# Altium integrated library NSC Interface.IntLib: 1288 symbols (part 40 of 45)
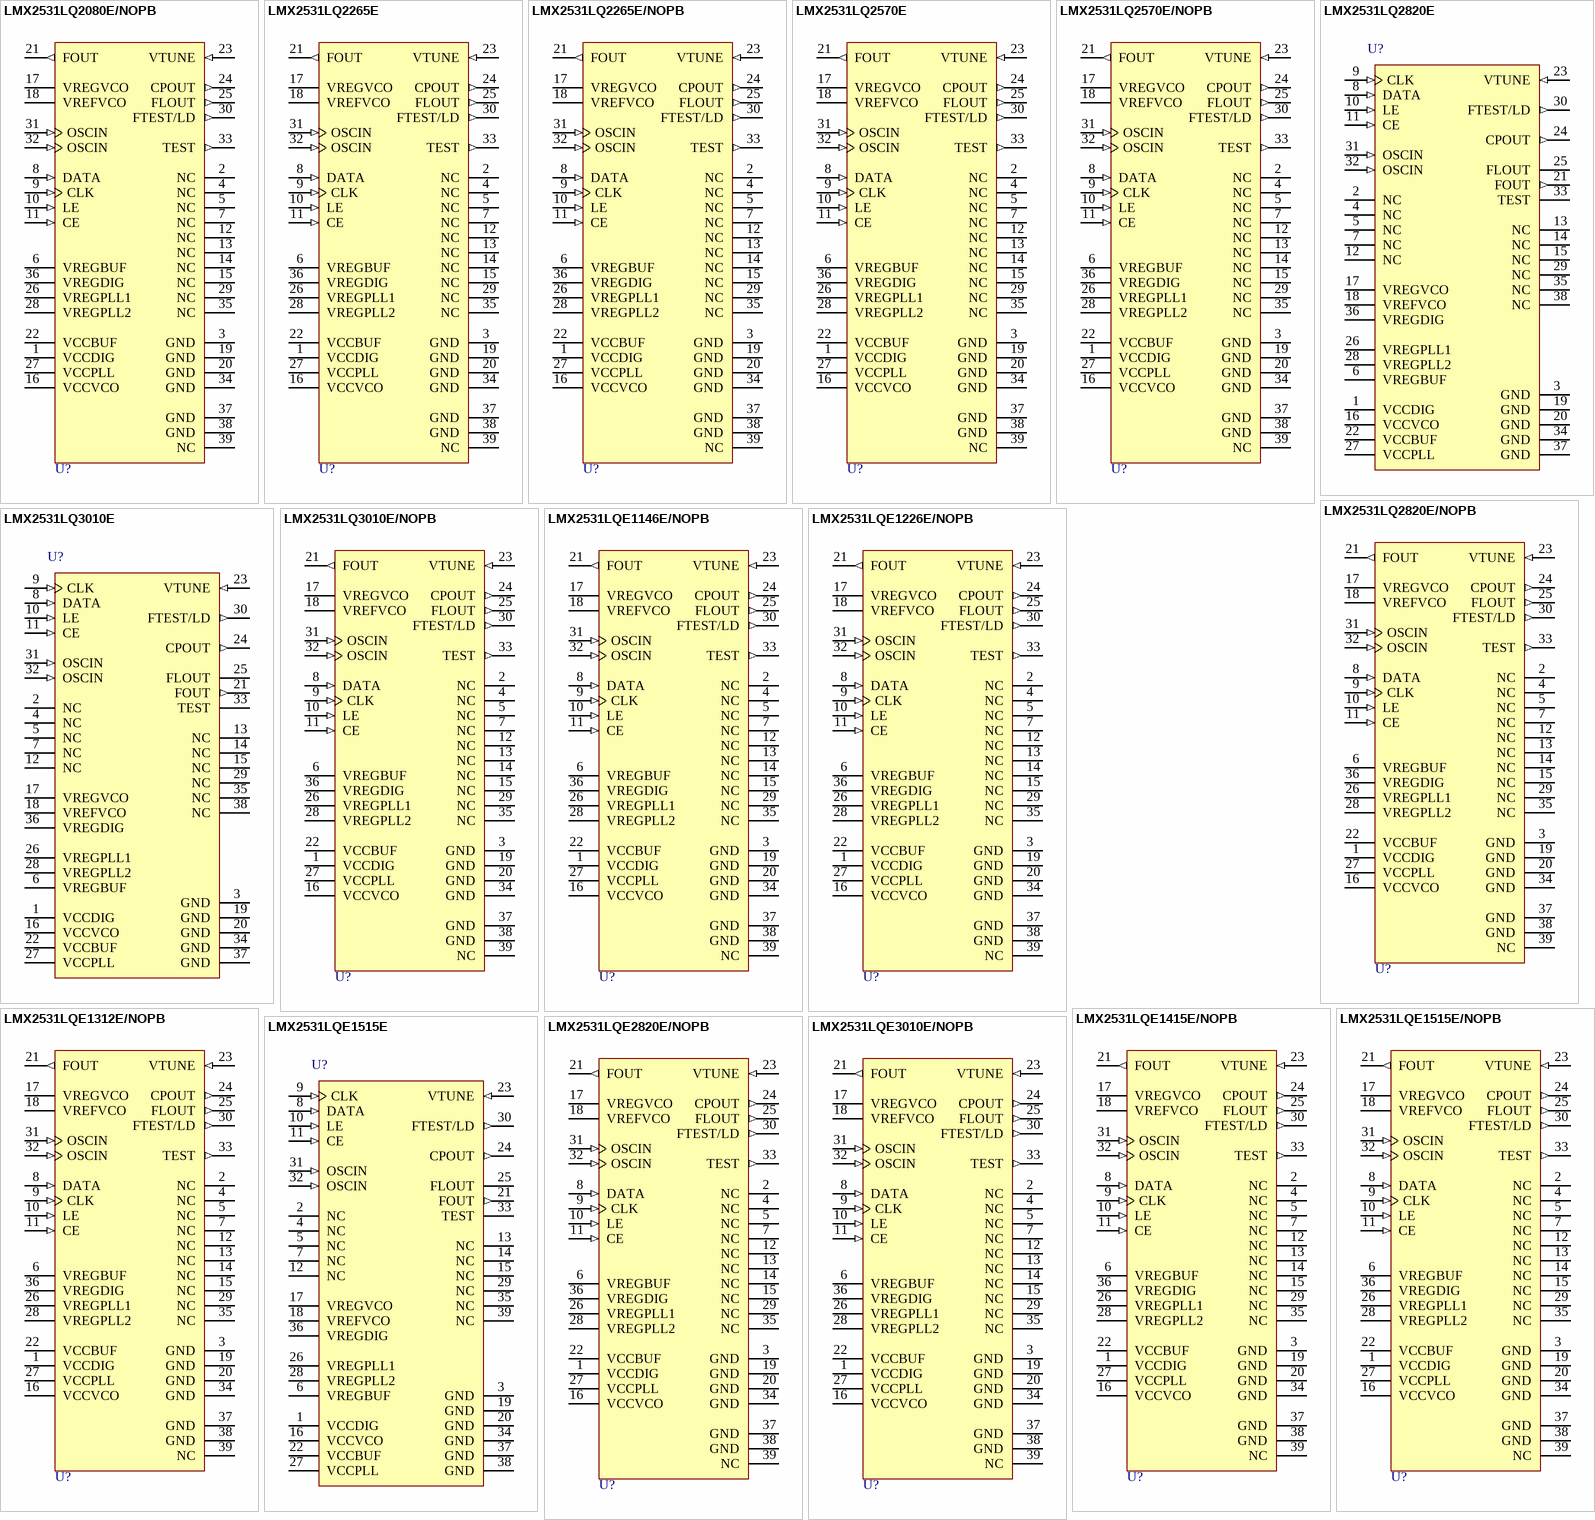
[diagram p151: symbols LMX2531LQ2080E/NOPB to LMX2531LQE3010E/NOPB]

## LMX2531LQ3010E
designator U?
High Performance Frequency Synthesizer System with Integrated VCO, 36-pin LLP; PartNumber: LMX2531LQ3010E; Manufacturer: National Semiconductor; PackageTopMarking: NS*UZXYTT*313010E; PowerWise: Y; CompType: Interface IC; Published: 9-Oct-2009; LatestRevisionDate: 1-Mar-2010; LatestRevisionNote: Updated datasheet to revision Dec-2009; DatasheetVersion: Dec-2009; PackageVersion: revB, Feb-2008; PackageReference: LQA36D; Publisher: Altium Limited; PackageDescription: LLP, Plastic, Quad, 6 x 6 x 0.8mm Body, 36 Lead, 0.5mm Pitch, Custom; RoHS: Y; PinCount: 36; ComponentLink1Description: LMX2531LQ3010E Datasheet; ComponentLink1URL: http://www.national.com/ds/LM/LMX2531.pdf; ComponentLink2Description: LMX2531LQ3010E Web Page; ComponentLink2URL: http://www.national.com/pf/LM/LMX2531LQ3010E.html; ComponentLink3Description: LQA36A Package Page; ComponentLink3URL: http://www.national.com/packaging/folders/lqa36a.html
footprint LQA36D (PQFN, 36-Leads, Body 6x6mm, Pitch 0.5mm, NSC Recommended)
pins: 1 VCCDIG (power), 2 NC, 3 GND (power), 4 NC, 5 NC, 6 VREGBUF (power), 7 NC, 8 DATA (in), 9 CLK (in), 10 LE (in), 11 CE (in), 12 NC, 13 NC, 14 NC, 15 NC, 16 VCCVCO (power), 17 VREGVCO (power), 18 VREFVCO (power), 19 GND (power), 20 GND (power), 21 FOUT (out), 22 VCCBUF (power), 23 VTUNE (in), 24 CPOUT (out), 25 FLOUT (oc), 26 VREGPLL1 (power), 27 VCCPLL (power), 28 VREGPLL2 (power), 29 NC, 30 FTEST/LD (out), 31 OSCIN (in), 32 OSCIN (in), 33 TEST, 34 GND (power), 35 NC, 36 VREGDIG (power), 37 GND, 38 NC

## LMX2531LQ3010E/NOPB
designator U?
High Performance Frequency Synthesizer System with Integrated VCO, 36-pin LLP, Pb-Free; PartNumber: LMX2531LQ3010E/NOPB; Manufacturer: National Semiconductor; PackageTopMarking: NS*UZXYTTE#*313010E; PowerWise: Y; CompType: Interface IC; Published: 1-Mar-2010; DatasheetVersion: Dec-2009; PackageVersion: revC, Oct-2003; PackageReference: LQA36A; Publisher: Altium Limited; PackageDescription: LLP, Plastic, Quad, 6 x 6 x 0.8mm Body, 36 Lead, 0.5mm Pitch, Custom; Supplier 1: Digi-Key; Supplier Part Number 1: LMX2531LQ3010E/NOPBTR-ND; Supplier 2: Digi-Key; Supplier Part Number 2: LMX2531LQ3010E/NOPBCT-ND; Supplier 3: Digi-Key; Supplier Part Number 3: LMX2531LQ3010E/NOPBDKR-ND; RoHS: Y; PinCount: 36; ComponentLink1Description: LMX2531 Datasheet; ComponentLink1URL: http://www.national.com/ds/LM/LMX2531.pdf; ComponentLink2Description: LMX2531 Web Page; ComponentLink2URL: http://www.national.com/pf/LM/LMX2531.html; ComponentLink3Description: LQA36A Package Page; ComponentLink3URL: http://www.national.com/packaging/folders/lqa36a.html
footprint LQA36A (PQFN, 36-Leads, Body 6x6mm, Pitch 0.5mm, NSC Recommended)
pins: 1 VCCDIG (power), 2 NC, 3 GND (power), 4 NC, 5 NC, 6 VREGBUF (power), 7 NC, 8 DATA (in), 9 CLK (in), 10 LE (in), 11 CE (in), 12 NC, 13 NC, 14 NC, 15 NC, 16 VCCVCO (power), 17 VREGVCO (power), 18 VREFVCO (power), 19 GND (power), 20 GND (power), 21 FOUT (out), 22 VCCBUF (power), 23 VTUNE (in), 24 CPOUT (out), 25 FLOUT (out), 26 VREGPLL1 (power), 27 VCCPLL (power), 28 VREGPLL2 (power), 29 NC, 30 FTEST/LD (out), 31 OSCIN (in), 32 OSCIN (in), 33 TEST (out), 34 GND (power), 35 NC, 36 VREGDIG (power), 37 GND (power), 38 GND (power), 39 NC

## LMX2531LQE1146E/NOPB
designator U?
High Performance Frequency Synthesizer System with Integrated VCO, 36-pin LLP, Pb-Free; PartNumber: LMX2531LQE1146E/NOPB; Manufacturer: National Semiconductor; PackageTopMarking: NS*UZXYTTE#*311146E; PowerWise: Y; CompType: Interface IC; Published: 1-Mar-2010; DatasheetVersion: Dec-2009; PackageVersion: revC, Oct-2003; PackageReference: LQA36A; Publisher: Altium Limited; PackageDescription: LLP, Plastic, Quad, 6 x 6 x 0.8mm Body, 36 Lead, 0.5mm Pitch, Custom; Supplier 1: Digi-Key; Supplier Part Number 1: LMX2531LQE1146ETR-ND; Supplier 2: Digi-Key; Supplier Part Number 2: LMX2531LQE1146ECT-ND; Supplier 3: Digi-Key; Supplier Part Number 3: LMX2531LQE1146EDKR-ND; RoHS: Y; PinCount: 36; ComponentLink1Description: LMX2531 Datasheet; ComponentLink1URL: http://www.national.com/ds/LM/LMX2531.pdf; ComponentLink2Description: LMX2531 Web Page; ComponentLink2URL: http://www.national.com/pf/LM/LMX2531.html; ComponentLink3Description: LQA36A Package Page; ComponentLink3URL: http://www.national.com/packaging/folders/lqa36a.html
footprint LQA36A (PQFN, 36-Leads, Body 6x6mm, Pitch 0.5mm, NSC Recommended)
pins: 1 VCCDIG (power), 2 NC, 3 GND (power), 4 NC, 5 NC, 6 VREGBUF (power), 7 NC, 8 DATA (in), 9 CLK (in), 10 LE (in), 11 CE (in), 12 NC, 13 NC, 14 NC, 15 NC, 16 VCCVCO (power), 17 VREGVCO (power), 18 VREFVCO (power), 19 GND (power), 20 GND (power), 21 FOUT (out), 22 VCCBUF (power), 23 VTUNE (in), 24 CPOUT (out), 25 FLOUT (out), 26 VREGPLL1 (power), 27 VCCPLL (power), 28 VREGPLL2 (power), 29 NC, 30 FTEST/LD (out), 31 OSCIN (in), 32 OSCIN (in), 33 TEST (out), 34 GND (power), 35 NC, 36 VREGDIG (power), 37 GND (power), 38 GND (power), 39 NC

## LMX2531LQE1226E/NOPB
designator U?
High Performance Frequency Synthesizer System with Integrated VCO, 36-pin LLP, Pb-Free; PartNumber: LMX2531LQE1226E/NOPB; Manufacturer: National Semiconductor; PackageTopMarking: NS*UZXYTTE#*311226E; PowerWise: Y; CompType: Interface IC; Published: 1-Mar-2010; DatasheetVersion: Dec-2009; PackageVersion: revC, Oct-2003; PackageReference: LQA36A; Publisher: Altium Limited; PackageDescription: LLP, Plastic, Quad, 6 x 6 x 0.8mm Body, 36 Lead, 0.5mm Pitch, Custom; Supplier 1: Digi-Key; Supplier Part Number 1: LMX2531LQE1226ETR-ND; Supplier 2: Digi-Key; Supplier Part Number 2: LMX2531LQE1226ECT-ND; Supplier 3: Digi-Key; Supplier Part Number 3: LMX2531LQE1226EDKR-ND; RoHS: Y; PinCount: 36; ComponentLink1Description: LMX2531 Datasheet; ComponentLink1URL: http://www.national.com/ds/LM/LMX2531.pdf; ComponentLink2Description: LMX2531 Web Page; ComponentLink2URL: http://www.national.com/pf/LM/LMX2531.html; ComponentLink3Description: LQA36A Package Page; ComponentLink3URL: http://www.national.com/packaging/folders/lqa36a.html
footprint LQA36A (PQFN, 36-Leads, Body 6x6mm, Pitch 0.5mm, NSC Recommended)
pins: 1 VCCDIG (power), 2 NC, 3 GND (power), 4 NC, 5 NC, 6 VREGBUF (power), 7 NC, 8 DATA (in), 9 CLK (in), 10 LE (in), 11 CE (in), 12 NC, 13 NC, 14 NC, 15 NC, 16 VCCVCO (power), 17 VREGVCO (power), 18 VREFVCO (power), 19 GND (power), 20 GND (power), 21 FOUT (out), 22 VCCBUF (power), 23 VTUNE (in), 24 CPOUT (out), 25 FLOUT (out), 26 VREGPLL1 (power), 27 VCCPLL (power), 28 VREGPLL2 (power), 29 NC, 30 FTEST/LD (out), 31 OSCIN (in), 32 OSCIN (in), 33 TEST (out), 34 GND (power), 35 NC, 36 VREGDIG (power), 37 GND (power), 38 GND (power), 39 NC

## LMX2531LQE1312E/NOPB
designator U?
High Performance Frequency Synthesizer System with Integrated VCO, 36-pin LLP, Pb-Free; PartNumber: LMX2531LQE1312E/NOPB; Manufacturer: National Semiconductor; PackageTopMarking: NS*UZXYTTE#*311312E; PowerWise: Y; CompType: Interface IC; Published: 1-Mar-2010; DatasheetVersion: Dec-2009; PackageVersion: revC, Oct-2003; PackageReference: LQA36A; Publisher: Altium Limited; PackageDescription: LLP, Plastic, Quad, 6 x 6 x 0.8mm Body, 36 Lead, 0.5mm Pitch, Custom; Supplier 1: Digi-Key; Supplier Part Number 1: LMX2531LQE1312ETR-ND; Supplier 2: Digi-Key; Supplier Part Number 2: LMX2531LQE1312ECT-ND; Supplier 3: Digi-Key; Supplier Part Number 3: LMX2531LQE1312EDKR-ND; RoHS: Y; PinCount: 36; ComponentLink1Description: LMX2531 Datasheet; ComponentLink1URL: http://www.national.com/ds/LM/LMX2531.pdf; ComponentLink2Description: LMX2531 Web Page; ComponentLink2URL: http://www.national.com/pf/LM/LMX2531.html; ComponentLink3Description: LQA36A Package Page; ComponentLink3URL: http://www.national.com/packaging/folders/lqa36a.html
footprint LQA36A (PQFN, 36-Leads, Body 6x6mm, Pitch 0.5mm, NSC Recommended)
pins: 1 VCCDIG (power), 2 NC, 3 GND (power), 4 NC, 5 NC, 6 VREGBUF (power), 7 NC, 8 DATA (in), 9 CLK (in), 10 LE (in), 11 CE (in), 12 NC, 13 NC, 14 NC, 15 NC, 16 VCCVCO (power), 17 VREGVCO (power), 18 VREFVCO (power), 19 GND (power), 20 GND (power), 21 FOUT (out), 22 VCCBUF (power), 23 VTUNE (in), 24 CPOUT (out), 25 FLOUT (out), 26 VREGPLL1 (power), 27 VCCPLL (power), 28 VREGPLL2 (power), 29 NC, 30 FTEST/LD (out), 31 OSCIN (in), 32 OSCIN (in), 33 TEST (out), 34 GND (power), 35 NC, 36 VREGDIG (power), 37 GND (power), 38 GND (power), 39 NC

## LMX2531LQE1415E/NOPB
designator U?
High Performance Frequency Synthesizer System with Integrated VCO, 36-pin LLP, Pb-Free; PartNumber: LMX2531LQE1415E/NOPB; Manufacturer: National Semiconductor; PackageTopMarking: NS*UZXYTTE#*311415E; PowerWise: Y; CompType: Interface IC; Published: 1-Mar-2010; DatasheetVersion: Dec-2009; PackageVersion: revC, Oct-2003; PackageReference: LQA36A; Publisher: Altium Limited; PackageDescription: LLP, Plastic, Quad, 6 x 6 x 0.8mm Body, 36 Lead, 0.5mm Pitch, Custom; Supplier 1: Digi-Key; Supplier Part Number 1: LMX2531LQE1415ETR-ND; Supplier 2: Digi-Key; Supplier Part Number 2: LMX2531LQE1415ECT-ND; Supplier 3: Digi-Key; Supplier Part Number 3: LMX2531LQE1415EDKR-ND; RoHS: Y; PinCount: 36; ComponentLink1Description: LMX2531 Datasheet; ComponentLink1URL: http://www.national.com/ds/LM/LMX2531.pdf; ComponentLink2Description: LMX2531 Web Page; ComponentLink2URL: http://www.national.com/pf/LM/LMX2531.html; ComponentLink3Description: LQA36A Package Page; ComponentLink3URL: http://www.national.com/packaging/folders/lqa36a.html
footprint LQA36A (PQFN, 36-Leads, Body 6x6mm, Pitch 0.5mm, NSC Recommended)
pins: 1 VCCDIG (power), 2 NC, 3 GND (power), 4 NC, 5 NC, 6 VREGBUF (power), 7 NC, 8 DATA (in), 9 CLK (in), 10 LE (in), 11 CE (in), 12 NC, 13 NC, 14 NC, 15 NC, 16 VCCVCO (power), 17 VREGVCO (power), 18 VREFVCO (power), 19 GND (power), 20 GND (power), 21 FOUT (out), 22 VCCBUF (power), 23 VTUNE (in), 24 CPOUT (out), 25 FLOUT (out), 26 VREGPLL1 (power), 27 VCCPLL (power), 28 VREGPLL2 (power), 29 NC, 30 FTEST/LD (out), 31 OSCIN (in), 32 OSCIN (in), 33 TEST (out), 34 GND (power), 35 NC, 36 VREGDIG (power), 37 GND (power), 38 GND (power), 39 NC

## LMX2531LQE1515E
designator U?
High Performance Frequency Synthesizer System with Integrated VCO, 38-pin LLP; PartNumber: LMX2531LQE1515E; Manufacturer: National Semiconductor; PackageTopMarking: NS*UZXYTT* 311515E; PowerWise: Y; CompType: Interface IC; Published: 4-Dec-2008; LatestRevisionDate: 1-Mar-2010; LatestRevisionNote: Updated datasheet to revision Dec-2009; DatasheetVersion: Dec-2009; PackageVersion: revC, Oct-2003; PackageReference: LQA36A; Publisher: Altium Limited; PackageDescription: LLP, Plastic, Quad, 6 x 6 x 0.8mm Body, 36 Lead, 0.5mm Pitch, Custom; RoHS: Y; PinCount: 36; ComponentLink1Description: LMX2531LQ1515E Datasheet; ComponentLink1URL: http://www.national.com/ds/LM/LMX2531.pdf; ComponentLink2Description: LMX2531LQ1515E Web Page; ComponentLink2URL: http://www.national.com/pf/LM/LMX2531LQ1515E.html; ComponentLink3Description: LQA36A Package Page; ComponentLink3URL: http://www.national.com/packaging/folders/lqa36a.html
footprint LQA36A (PQFN, 36-Leads, Body 6x6mm, Pitch 0.5mm, NSC Recommended)
pins: 1 VCCDIG (power), 2 NC, 3 GND (power), 4 NC, 5 NC, 6 VREGBUF (power), 7 NC, 8 DATA (in), 9 CLK (in), 10 LE (in), 11 CE (in), 12 NC, 13 NC, 14 NC, 15 NC, 16 VCCVCO (power), 17 VREGVCO (power), 18 VREFVCO (power), 19 GND (power), 20 GND (power), 21 FOUT (out), 22 VCCBUF (power), 23 VTUNE (in), 24 CPOUT (out), 25 FLOUT (oc), 26 VREGPLL1 (power), 27 VCCPLL (power), 28 VREGPLL2 (power), 29 NC, 30 FTEST/LD (out), 31 OSCIN (in), 32 OSCIN (in), 33 TEST, 34 GND (power), 35 NC, 36 VREGDIG (power), 37 GND, 38 GND, 39 NC

## LMX2531LQE1515E/NOPB
designator U?
High Performance Frequency Synthesizer System with Integrated VCO, 36-pin LLP, Pb-Free; PartNumber: LMX2531LQE1515E/NOPB; Manufacturer: National Semiconductor; PackageTopMarking: NS*UZXYTTE#*311515E; PowerWise: Y; CompType: Interface IC; Published: 1-Mar-2010; DatasheetVersion: Dec-2009; PackageVersion: revC, Oct-2003; PackageReference: LQA36A; Publisher: Altium Limited; PackageDescription: LLP, Plastic, Quad, 6 x 6 x 0.8mm Body, 36 Lead, 0.5mm Pitch, Custom; Supplier 1: Digi-Key; Supplier Part Number 1: LMX2531LQE1515ETR-ND; Supplier 2: Digi-Key; Supplier Part Number 2: LMX2531LQE1515ECT-ND; Supplier 3: Digi-Key; Supplier Part Number 3: LMX2531LQE1515EDKR-ND; RoHS: Y; PinCount: 36; ComponentLink1Description: LMX2531 Datasheet; ComponentLink1URL: http://www.national.com/ds/LM/LMX2531.pdf; ComponentLink2Description: LMX2531 Web Page; ComponentLink2URL: http://www.national.com/pf/LM/LMX2531.html; ComponentLink3Description: LQA36A Package Page; ComponentLink3URL: http://www.national.com/packaging/folders/lqa36a.html
footprint LQA36A (PQFN, 36-Leads, Body 6x6mm, Pitch 0.5mm, NSC Recommended)
pins: 1 VCCDIG (power), 2 NC, 3 GND (power), 4 NC, 5 NC, 6 VREGBUF (power), 7 NC, 8 DATA (in), 9 CLK (in), 10 LE (in), 11 CE (in), 12 NC, 13 NC, 14 NC, 15 NC, 16 VCCVCO (power), 17 VREGVCO (power), 18 VREFVCO (power), 19 GND (power), 20 GND (power), 21 FOUT (out), 22 VCCBUF (power), 23 VTUNE (in), 24 CPOUT (out), 25 FLOUT (out), 26 VREGPLL1 (power), 27 VCCPLL (power), 28 VREGPLL2 (power), 29 NC, 30 FTEST/LD (out), 31 OSCIN (in), 32 OSCIN (in), 33 TEST (out), 34 GND (power), 35 NC, 36 VREGDIG (power), 37 GND (power), 38 GND (power), 39 NC

## LMX2531LQE2820E/NOPB
designator U?
High Performance Frequency Synthesizer System with Integrated VCO, 36-pin LLP, Pb-Free; PartNumber: LMX2531LQE2820E/NOPB; Manufacturer: National Semiconductor; PackageTopMarking: NS*UZXYTTE#*312820E; PowerWise: Y; CompType: Interface IC; Published: 1-Mar-2010; DatasheetVersion: Dec-2009; PackageVersion: revC, Oct-2003; PackageReference: LQA36A; Publisher: Altium Limited; PackageDescription: LLP, Plastic, Quad, 6 x 6 x 0.8mm Body, 36 Lead, 0.5mm Pitch, Custom; Supplier 1: Digi-Key; Supplier Part Number 1: LMX2531LQE2820ETR-ND; Supplier 2: Digi-Key; Supplier Part Number 2: LMX2531LQE2820ECT-ND; Supplier 3: Digi-Key; Supplier Part Number 3: LMX2531LQE2820EDKR-ND; RoHS: Y; PinCount: 36; ComponentLink1Description: LMX2531 Datasheet; ComponentLink1URL: http://www.national.com/ds/LM/LMX2531.pdf; ComponentLink2Description: LMX2531 Web Page; ComponentLink2URL: http://www.national.com/pf/LM/LMX2531.html; ComponentLink3Description: LQA36A Package Page; ComponentLink3URL: http://www.national.com/packaging/folders/lqa36a.html
footprint LQA36A (PQFN, 36-Leads, Body 6x6mm, Pitch 0.5mm, NSC Recommended)
pins: 1 VCCDIG (power), 2 NC, 3 GND (power), 4 NC, 5 NC, 6 VREGBUF (power), 7 NC, 8 DATA (in), 9 CLK (in), 10 LE (in), 11 CE (in), 12 NC, 13 NC, 14 NC, 15 NC, 16 VCCVCO (power), 17 VREGVCO (power), 18 VREFVCO (power), 19 GND (power), 20 GND (power), 21 FOUT (out), 22 VCCBUF (power), 23 VTUNE (in), 24 CPOUT (out), 25 FLOUT (out), 26 VREGPLL1 (power), 27 VCCPLL (power), 28 VREGPLL2 (power), 29 NC, 30 FTEST/LD (out), 31 OSCIN (in), 32 OSCIN (in), 33 TEST (out), 34 GND (power), 35 NC, 36 VREGDIG (power), 37 GND (power), 38 GND (power), 39 NC

## LMX2531LQE3010E/NOPB
designator U?
High Performance Frequency Synthesizer System with Integrated VCO, 36-pin LLP, Pb-Free; PartNumber: LMX2531LQE3010E/NOPB; Manufacturer: National Semiconductor; PackageTopMarking: NS*UZXYTTE#*313010E; PowerWise: Y; CompType: Interface IC; Published: 1-Mar-2010; DatasheetVersion: Dec-2009; PackageVersion: revC, Oct-2003; PackageReference: LQA36A; Publisher: Altium Limited; PackageDescription: LLP, Plastic, Quad, 6 x 6 x 0.8mm Body, 36 Lead, 0.5mm Pitch, Custom; Supplier 1: Digi-Key; Supplier Part Number 1: LMX2531LQE3010ETR-ND; Supplier 2: Digi-Key; Supplier Part Number 2: LMX2531LQE3010ECT-ND; Supplier 3: Digi-Key; Supplier Part Number 3: LMX2531LQE3010EDKR-ND; RoHS: Y; PinCount: 36; ComponentLink1Description: LMX2531 Datasheet; ComponentLink1URL: http://www.national.com/ds/LM/LMX2531.pdf; ComponentLink2Description: LMX2531 Web Page; ComponentLink2URL: http://www.national.com/pf/LM/LMX2531.html; ComponentLink3Description: LQA36A Package Page; ComponentLink3URL: http://www.national.com/packaging/folders/lqa36a.html
footprint LQA36A (PQFN, 36-Leads, Body 6x6mm, Pitch 0.5mm, NSC Recommended)
pins: 1 VCCDIG (power), 2 NC, 3 GND (power), 4 NC, 5 NC, 6 VREGBUF (power), 7 NC, 8 DATA (in), 9 CLK (in), 10 LE (in), 11 CE (in), 12 NC, 13 NC, 14 NC, 15 NC, 16 VCCVCO (power), 17 VREGVCO (power), 18 VREFVCO (power), 19 GND (power), 20 GND (power), 21 FOUT (out), 22 VCCBUF (power), 23 VTUNE (in), 24 CPOUT (out), 25 FLOUT (out), 26 VREGPLL1 (power), 27 VCCPLL (power), 28 VREGPLL2 (power), 29 NC, 30 FTEST/LD (out), 31 OSCIN (in), 32 OSCIN (in), 33 TEST (out), 34 GND (power), 35 NC, 36 VREGDIG (power), 37 GND (power), 38 GND (power), 39 NC

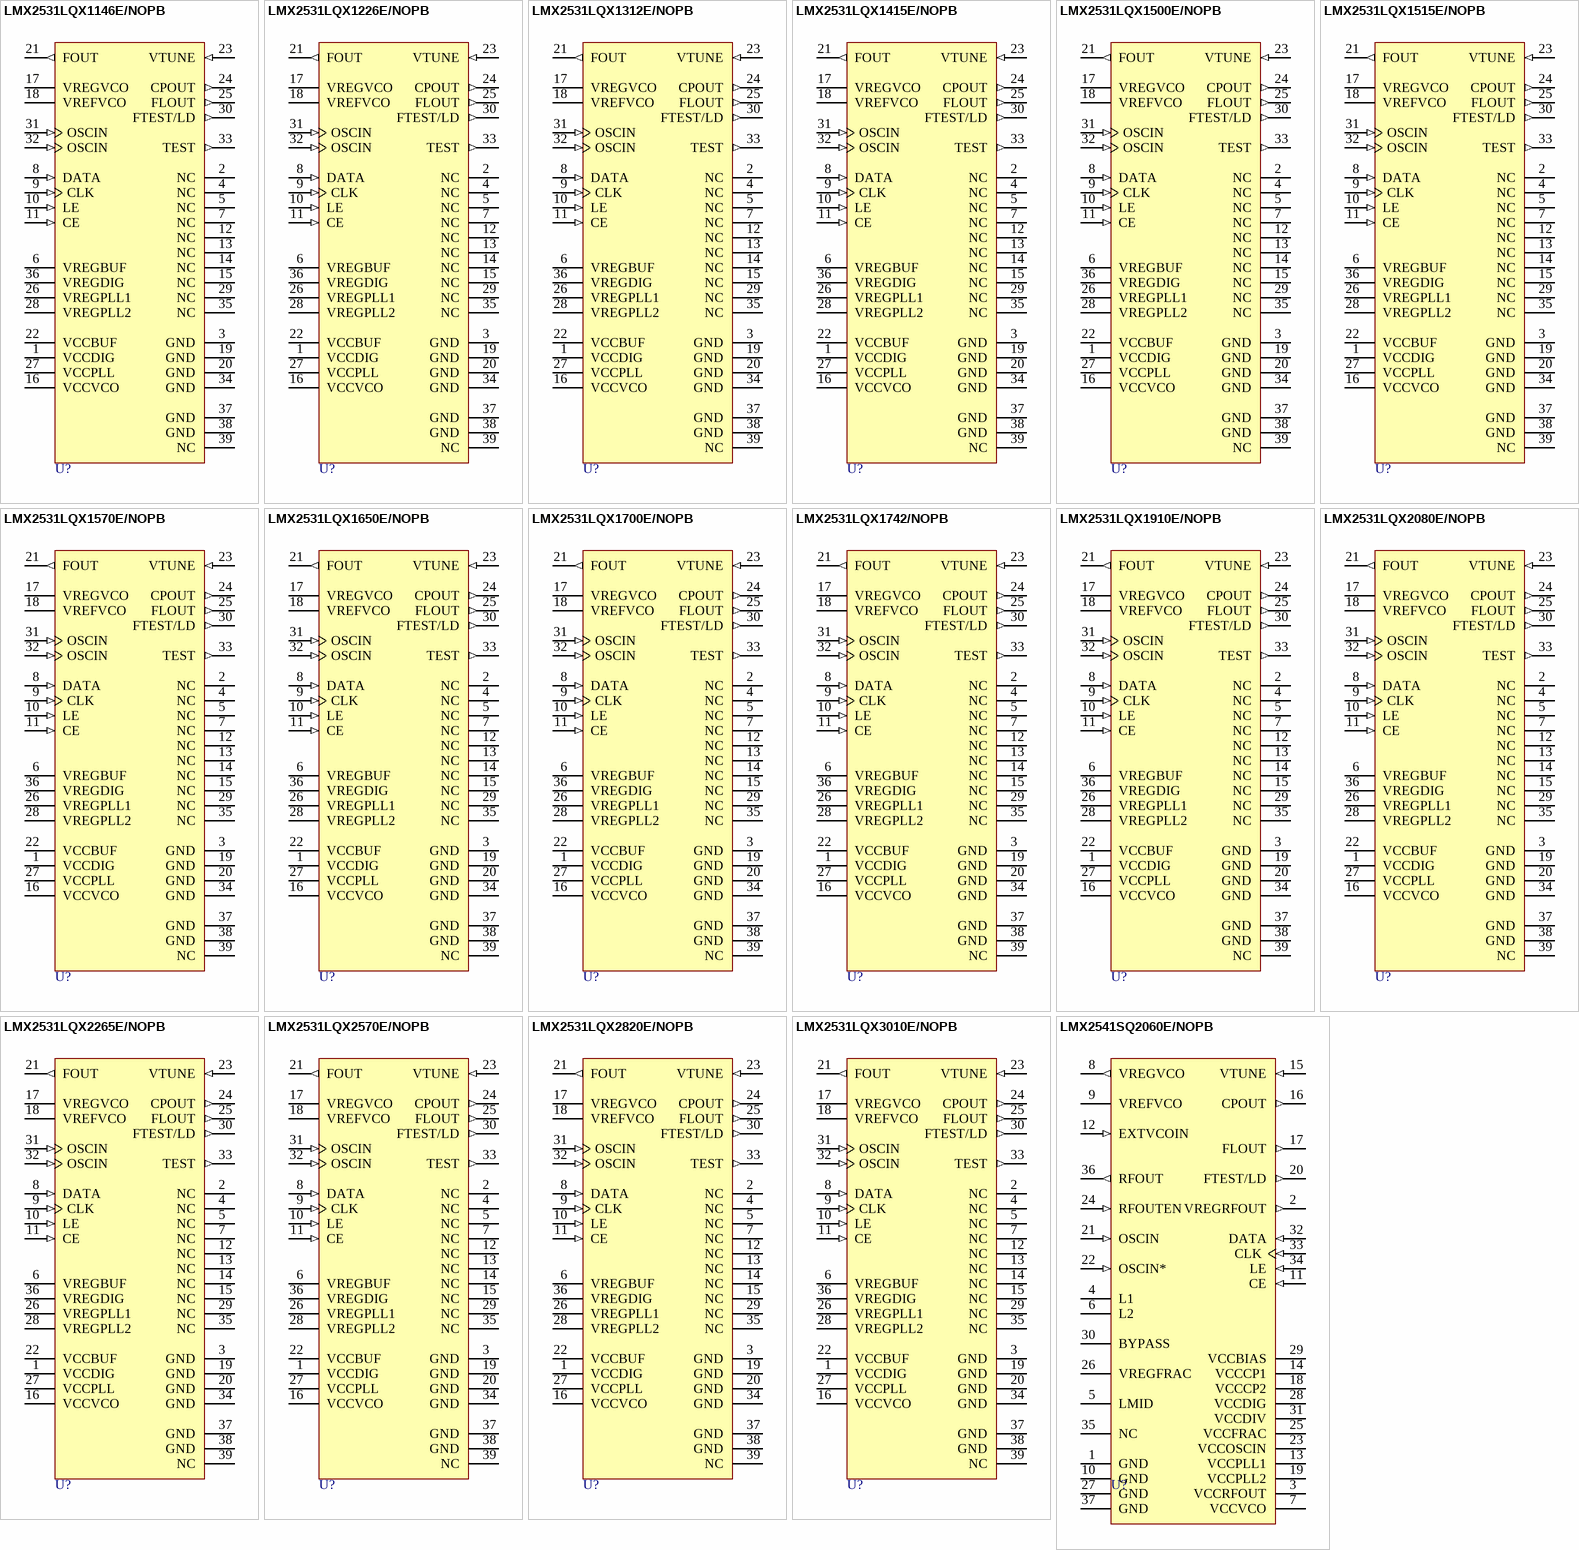
[diagram p97: symbols LMX2531LQX1146E/NOPB to LMX2541SQ2060E/NOPB]

## LMX2531LQX1146E/NOPB
designator U?
High Performance Frequency Synthesizer System with Integrated VCO, 36-pin LLP, Pb-Free; PartNumber: LMX2531LQX1146E/NOPB; Manufacturer: National Semiconductor; PackageTopMarking: NS*UZXYTTE#*311146E; PowerWise: Y; CompType: Interface IC; Published: 1-Mar-2010; DatasheetVersion: Dec-2009; PackageVersion: revC, Oct-2003; PackageReference: LQA36A; Publisher: Altium Limited; PackageDescription: LLP, Plastic, Quad, 6 x 6 x 0.8mm Body, 36 Lead, 0.5mm Pitch, Custom; Supplier 1: Digi-Key; Supplier Part Number 1: LMX2531LQX1146E-ND; RoHS: Y; PinCount: 36; ComponentLink1Description: LMX2531 Datasheet; ComponentLink1URL: http://www.national.com/ds/LM/LMX2531.pdf; ComponentLink2Description: LMX2531 Web Page; ComponentLink2URL: http://www.national.com/pf/LM/LMX2531.html; ComponentLink3Description: LQA36A Package Page; ComponentLink3URL: http://www.national.com/packaging/folders/lqa36a.html
footprint LQA36A (PQFN, 36-Leads, Body 6x6mm, Pitch 0.5mm, NSC Recommended)
pins: 1 VCCDIG (power), 2 NC, 3 GND (power), 4 NC, 5 NC, 6 VREGBUF (power), 7 NC, 8 DATA (in), 9 CLK (in), 10 LE (in), 11 CE (in), 12 NC, 13 NC, 14 NC, 15 NC, 16 VCCVCO (power), 17 VREGVCO (power), 18 VREFVCO (power), 19 GND (power), 20 GND (power), 21 FOUT (out), 22 VCCBUF (power), 23 VTUNE (in), 24 CPOUT (out), 25 FLOUT (out), 26 VREGPLL1 (power), 27 VCCPLL (power), 28 VREGPLL2 (power), 29 NC, 30 FTEST/LD (out), 31 OSCIN (in), 32 OSCIN (in), 33 TEST (out), 34 GND (power), 35 NC, 36 VREGDIG (power), 37 GND (power), 38 GND (power), 39 NC

## LMX2531LQX1226E/NOPB
designator U?
High Performance Frequency Synthesizer System with Integrated VCO, 36-pin LLP, Pb-Free; PartNumber: LMX2531LQX1226E/NOPB; Manufacturer: National Semiconductor; PackageTopMarking: NS*UZXYTTE#*311226E; PowerWise: Y; CompType: Interface IC; Published: 1-Mar-2010; DatasheetVersion: Dec-2009; PackageVersion: revC, Oct-2003; PackageReference: LQA36A; Publisher: Altium Limited; PackageDescription: LLP, Plastic, Quad, 6 x 6 x 0.8mm Body, 36 Lead, 0.5mm Pitch, Custom; Supplier 1: Digi-Key; Supplier Part Number 1: LMX2531LQX1226E-ND; RoHS: Y; PinCount: 36; ComponentLink1Description: LMX2531 Datasheet; ComponentLink1URL: http://www.national.com/ds/LM/LMX2531.pdf; ComponentLink2Description: LMX2531 Web Page; ComponentLink2URL: http://www.national.com/pf/LM/LMX2531.html; ComponentLink3Description: LQA36A Package Page; ComponentLink3URL: http://www.national.com/packaging/folders/lqa36a.html
footprint LQA36A (PQFN, 36-Leads, Body 6x6mm, Pitch 0.5mm, NSC Recommended)
pins: 1 VCCDIG (power), 2 NC, 3 GND (power), 4 NC, 5 NC, 6 VREGBUF (power), 7 NC, 8 DATA (in), 9 CLK (in), 10 LE (in), 11 CE (in), 12 NC, 13 NC, 14 NC, 15 NC, 16 VCCVCO (power), 17 VREGVCO (power), 18 VREFVCO (power), 19 GND (power), 20 GND (power), 21 FOUT (out), 22 VCCBUF (power), 23 VTUNE (in), 24 CPOUT (out), 25 FLOUT (out), 26 VREGPLL1 (power), 27 VCCPLL (power), 28 VREGPLL2 (power), 29 NC, 30 FTEST/LD (out), 31 OSCIN (in), 32 OSCIN (in), 33 TEST (out), 34 GND (power), 35 NC, 36 VREGDIG (power), 37 GND (power), 38 GND (power), 39 NC

## LMX2531LQX1312E/NOPB
designator U?
High Performance Frequency Synthesizer System with Integrated VCO, 36-pin LLP, Pb-Free; PartNumber: LMX2531LQX1312E/NOPB; Manufacturer: National Semiconductor; PackageTopMarking: NS*UZXYTTE#*311312E; PowerWise: Y; CompType: Interface IC; Published: 1-Mar-2010; DatasheetVersion: Dec-2009; PackageVersion: revC, Oct-2003; PackageReference: LQA36A; Publisher: Altium Limited; PackageDescription: LLP, Plastic, Quad, 6 x 6 x 0.8mm Body, 36 Lead, 0.5mm Pitch, Custom; Supplier 1: Digi-Key; Supplier Part Number 1: LMX2531LQX1312E-ND; RoHS: Y; PinCount: 36; ComponentLink1Description: LMX2531 Datasheet; ComponentLink1URL: http://www.national.com/ds/LM/LMX2531.pdf; ComponentLink2Description: LMX2531 Web Page; ComponentLink2URL: http://www.national.com/pf/LM/LMX2531.html; ComponentLink3Description: LQA36A Package Page; ComponentLink3URL: http://www.national.com/packaging/folders/lqa36a.html
footprint LQA36A (PQFN, 36-Leads, Body 6x6mm, Pitch 0.5mm, NSC Recommended)
pins: 1 VCCDIG (power), 2 NC, 3 GND (power), 4 NC, 5 NC, 6 VREGBUF (power), 7 NC, 8 DATA (in), 9 CLK (in), 10 LE (in), 11 CE (in), 12 NC, 13 NC, 14 NC, 15 NC, 16 VCCVCO (power), 17 VREGVCO (power), 18 VREFVCO (power), 19 GND (power), 20 GND (power), 21 FOUT (out), 22 VCCBUF (power), 23 VTUNE (in), 24 CPOUT (out), 25 FLOUT (out), 26 VREGPLL1 (power), 27 VCCPLL (power), 28 VREGPLL2 (power), 29 NC, 30 FTEST/LD (out), 31 OSCIN (in), 32 OSCIN (in), 33 TEST (out), 34 GND (power), 35 NC, 36 VREGDIG (power), 37 GND (power), 38 GND (power), 39 NC

## LMX2531LQX1415E/NOPB
designator U?
High Performance Frequency Synthesizer System with Integrated VCO, 36-pin LLP, Pb-Free; PartNumber: LMX2531LQX1415E/NOPB; Manufacturer: National Semiconductor; PackageTopMarking: NS*UZXYTTE#*311415E; PowerWise: Y; CompType: Interface IC; Published: 1-Mar-2010; DatasheetVersion: Dec-2009; PackageVersion: revC, Oct-2003; PackageReference: LQA36A; Publisher: Altium Limited; PackageDescription: LLP, Plastic, Quad, 6 x 6 x 0.8mm Body, 36 Lead, 0.5mm Pitch, Custom; Supplier 1: Digi-Key; Supplier Part Number 1: LMX2531LQX1415E-ND; RoHS: Y; PinCount: 36; ComponentLink1Description: LMX2531 Datasheet; ComponentLink1URL: http://www.national.com/ds/LM/LMX2531.pdf; ComponentLink2Description: LMX2531 Web Page; ComponentLink2URL: http://www.national.com/pf/LM/LMX2531.html; ComponentLink3Description: LQA36A Package Page; ComponentLink3URL: http://www.national.com/packaging/folders/lqa36a.html
footprint LQA36A (PQFN, 36-Leads, Body 6x6mm, Pitch 0.5mm, NSC Recommended)
pins: 1 VCCDIG (power), 2 NC, 3 GND (power), 4 NC, 5 NC, 6 VREGBUF (power), 7 NC, 8 DATA (in), 9 CLK (in), 10 LE (in), 11 CE (in), 12 NC, 13 NC, 14 NC, 15 NC, 16 VCCVCO (power), 17 VREGVCO (power), 18 VREFVCO (power), 19 GND (power), 20 GND (power), 21 FOUT (out), 22 VCCBUF (power), 23 VTUNE (in), 24 CPOUT (out), 25 FLOUT (out), 26 VREGPLL1 (power), 27 VCCPLL (power), 28 VREGPLL2 (power), 29 NC, 30 FTEST/LD (out), 31 OSCIN (in), 32 OSCIN (in), 33 TEST (out), 34 GND (power), 35 NC, 36 VREGDIG (power), 37 GND (power), 38 GND (power), 39 NC

## LMX2531LQX1500E/NOPB
designator U?
High Performance Frequency Synthesizer System with Integrated VCO, 36 pin LLP, Pb-Free; PartNumber: LMX2531LQX1500E/NOPB; Manufacturer: National Semiconductor; PackageTopMarking: NS*UZXYTTE#*311500EB; PowerWise: N; CompType: Interface IC; Published: 1-Mar-2010; DatasheetVersion: Dec-2009; PackageVersion: revC, Oct-2003; PackageReference: LQA36A; Publisher: Altium Limited; PackageDescription: LLP, Plastic, Quad, 6 x 6 x 0.8mm Body, 36 Lead, 0.5mm Pitch, Custom; Supplier 1: Digi-Key; Supplier Part Number 1: LMX2531LQX1500E-ND; RoHS: Y; PinCount: 36; ComponentLink1Description: LMX2531 Datasheet; ComponentLink1URL: http://www.national.com/ds/LM/LMX2531.pdf; ComponentLink2Description: LMX2531 Web Page; ComponentLink2URL: http://www.national.com/pf/LM/LMX2531.html; ComponentLink3Description: LQA36A Package Page; ComponentLink3URL: http://www.national.com/packaging/folders/lqa36a.html
footprint LQA36A (PQFN, 36-Leads, Body 6x6mm, Pitch 0.5mm, NSC Recommended)
pins: 1 VCCDIG (power), 2 NC, 3 GND (power), 4 NC, 5 NC, 6 VREGBUF (power), 7 NC, 8 DATA (in), 9 CLK (in), 10 LE (in), 11 CE (in), 12 NC, 13 NC, 14 NC, 15 NC, 16 VCCVCO (power), 17 VREGVCO (power), 18 VREFVCO (power), 19 GND (power), 20 GND (power), 21 FOUT (out), 22 VCCBUF (power), 23 VTUNE (in), 24 CPOUT (out), 25 FLOUT (out), 26 VREGPLL1 (power), 27 VCCPLL (power), 28 VREGPLL2 (power), 29 NC, 30 FTEST/LD (out), 31 OSCIN (in), 32 OSCIN (in), 33 TEST (out), 34 GND (power), 35 NC, 36 VREGDIG (power), 37 GND (power), 38 GND (power), 39 NC

## LMX2531LQX1515E/NOPB
designator U?
High Performance Frequency Synthesizer System with Integrated VCO, 36-pin LLP, Pb-Free; PartNumber: LMX2531LQX1515E/NOPB; Manufacturer: National Semiconductor; PackageTopMarking: NS*UZXYTTE#*311515E; PowerWise: Y; CompType: Interface IC; Published: 1-Mar-2010; DatasheetVersion: Dec-2009; PackageVersion: revC, Oct-2003; PackageReference: LQA36A; Publisher: Altium Limited; PackageDescription: LLP, Plastic, Quad, 6 x 6 x 0.8mm Body, 36 Lead, 0.5mm Pitch, Custom; Supplier 1: Digi-Key; Supplier Part Number 1: LMX2531LQX1515E-ND; RoHS: Y; PinCount: 36; ComponentLink1Description: LMX2531 Datasheet; ComponentLink1URL: http://www.national.com/ds/LM/LMX2531.pdf; ComponentLink2Description: LMX2531 Web Page; ComponentLink2URL: http://www.national.com/pf/LM/LMX2531.html; ComponentLink3Description: LQA36A Package Page; ComponentLink3URL: http://www.national.com/packaging/folders/lqa36a.html
footprint LQA36A (PQFN, 36-Leads, Body 6x6mm, Pitch 0.5mm, NSC Recommended)
pins: 1 VCCDIG (power), 2 NC, 3 GND (power), 4 NC, 5 NC, 6 VREGBUF (power), 7 NC, 8 DATA (in), 9 CLK (in), 10 LE (in), 11 CE (in), 12 NC, 13 NC, 14 NC, 15 NC, 16 VCCVCO (power), 17 VREGVCO (power), 18 VREFVCO (power), 19 GND (power), 20 GND (power), 21 FOUT (out), 22 VCCBUF (power), 23 VTUNE (in), 24 CPOUT (out), 25 FLOUT (out), 26 VREGPLL1 (power), 27 VCCPLL (power), 28 VREGPLL2 (power), 29 NC, 30 FTEST/LD (out), 31 OSCIN (in), 32 OSCIN (in), 33 TEST (out), 34 GND (power), 35 NC, 36 VREGDIG (power), 37 GND (power), 38 GND (power), 39 NC

## LMX2531LQX1570E/NOPB
designator U?
High Performance Frequency Synthesizer System with Integrated VCO, 36-pin LLP, Pb-Free; PartNumber: LMX2531LQX1570E/NOPB; Manufacturer: National Semiconductor; PackageTopMarking: NS*UZXYTTE#*311570EB; PowerWise: Y; CompType: Interface IC; Published: 1-Mar-2010; DatasheetVersion: Dec-2009; PackageVersion: revC, Oct-2003; PackageReference: LQA36A; Publisher: Altium Limited; PackageDescription: LLP, Plastic, Quad, 6 x 6 x 0.8mm Body, 36 Lead, 0.5mm Pitch, Custom; Supplier 1: Digi-Key; Supplier Part Number 1: LMX2531LQX1570E-ND; RoHS: Y; PinCount: 36; ComponentLink1Description: LMX2531 Datasheet; ComponentLink1URL: http://www.national.com/ds/LM/LMX2531.pdf; ComponentLink2Description: LMX2531 Web Page; ComponentLink2URL: http://www.national.com/pf/LM/LMX2531.html; ComponentLink3Description: LQA36A Package Page; ComponentLink3URL: http://www.national.com/packaging/folders/lqa36a.html
footprint LQA36A (PQFN, 36-Leads, Body 6x6mm, Pitch 0.5mm, NSC Recommended)
pins: 1 VCCDIG (power), 2 NC, 3 GND (power), 4 NC, 5 NC, 6 VREGBUF (power), 7 NC, 8 DATA (in), 9 CLK (in), 10 LE (in), 11 CE (in), 12 NC, 13 NC, 14 NC, 15 NC, 16 VCCVCO (power), 17 VREGVCO (power), 18 VREFVCO (power), 19 GND (power), 20 GND (power), 21 FOUT (out), 22 VCCBUF (power), 23 VTUNE (in), 24 CPOUT (out), 25 FLOUT (out), 26 VREGPLL1 (power), 27 VCCPLL (power), 28 VREGPLL2 (power), 29 NC, 30 FTEST/LD (out), 31 OSCIN (in), 32 OSCIN (in), 33 TEST (out), 34 GND (power), 35 NC, 36 VREGDIG (power), 37 GND (power), 38 GND (power), 39 NC

## LMX2531LQX1650E/NOPB
designator U?
High Performance Frequency Synthesizer System with Integrated VCO, 36-pin LLP, Pb-Free; PartNumber: LMX2531LQX1650E/NOPB; Manufacturer: National Semiconductor; PackageTopMarking: NS*UZXYTTE#*311650EA; PowerWise: Y; CompType: Interface IC; Published: 1-Mar-2010; DatasheetVersion: Dec-2009; PackageVersion: revC, Oct-2003; PackageReference: LQA36A; Publisher: Altium Limited; PackageDescription: LLP, Plastic, Quad, 6 x 6 x 0.8mm Body, 36 Lead, 0.5mm Pitch, Custom; Supplier 1: Digi-Key; Supplier Part Number 1: LMX2531LQX1650E-ND; RoHS: Y; PinCount: 36; ComponentLink1Description: LMX2531 Datasheet; ComponentLink1URL: http://www.national.com/ds/LM/LMX2531.pdf; ComponentLink2Description: LMX2531 Web Page; ComponentLink2URL: http://www.national.com/pf/LM/LMX2531.html; ComponentLink3Description: LQA36A Package Page; ComponentLink3URL: http://www.national.com/packaging/folders/lqa36a.html
footprint LQA36A (PQFN, 36-Leads, Body 6x6mm, Pitch 0.5mm, NSC Recommended)
pins: 1 VCCDIG (power), 2 NC, 3 GND (power), 4 NC, 5 NC, 6 VREGBUF (power), 7 NC, 8 DATA (in), 9 CLK (in), 10 LE (in), 11 CE (in), 12 NC, 13 NC, 14 NC, 15 NC, 16 VCCVCO (power), 17 VREGVCO (power), 18 VREFVCO (power), 19 GND (power), 20 GND (power), 21 FOUT (out), 22 VCCBUF (power), 23 VTUNE (in), 24 CPOUT (out), 25 FLOUT (out), 26 VREGPLL1 (power), 27 VCCPLL (power), 28 VREGPLL2 (power), 29 NC, 30 FTEST/LD (out), 31 OSCIN (in), 32 OSCIN (in), 33 TEST (out), 34 GND (power), 35 NC, 36 VREGDIG (power), 37 GND (power), 38 GND (power), 39 NC

## LMX2531LQX1700E/NOPB
designator U?
High Performance Frequency Synthesizer System with Integrated VCO, 36-pin LLP, Pb-Free; PartNumber: LMX2531LQX1700E/NOPB; Manufacturer: National Semiconductor; PackageTopMarking: NS*UZXYTTE#*311700EB; PowerWise: N; CompType: Interface IC; Published: 1-Mar-2010; DatasheetVersion: Dec-2009; PackageVersion: revC, Oct-2003; PackageReference: LQA36A; Publisher: Altium Limited; PackageDescription: LLP, Plastic, Quad, 6 x 6 x 0.8mm Body, 36 Lead, 0.5mm Pitch, Custom; Supplier 1: Digi-Key; Supplier Part Number 1: LMX2531LQX1700E-ND; RoHS: Y; PinCount: 36; ComponentLink1Description: LMX2531 Datasheet; ComponentLink1URL: http://www.national.com/ds/LM/LMX2531.pdf; ComponentLink2Description: LMX2531 Web Page; ComponentLink2URL: http://www.national.com/pf/LM/LMX2531.html; ComponentLink3Description: LQA36A Package Page; ComponentLink3URL: http://www.national.com/packaging/folders/lqa36a.html
footprint LQA36A (PQFN, 36-Leads, Body 6x6mm, Pitch 0.5mm, NSC Recommended)
pins: 1 VCCDIG (power), 2 NC, 3 GND (power), 4 NC, 5 NC, 6 VREGBUF (power), 7 NC, 8 DATA (in), 9 CLK (in), 10 LE (in), 11 CE (in), 12 NC, 13 NC, 14 NC, 15 NC, 16 VCCVCO (power), 17 VREGVCO (power), 18 VREFVCO (power), 19 GND (power), 20 GND (power), 21 FOUT (out), 22 VCCBUF (power), 23 VTUNE (in), 24 CPOUT (out), 25 FLOUT (out), 26 VREGPLL1 (power), 27 VCCPLL (power), 28 VREGPLL2 (power), 29 NC, 30 FTEST/LD (out), 31 OSCIN (in), 32 OSCIN (in), 33 TEST (out), 34 GND (power), 35 NC, 36 VREGDIG (power), 37 GND (power), 38 GND (power), 39 NC

## LMX2531LQX1742/NOPB
designator U?
High Performance Frequency Synthesizer System with Integrated VCO, 36-pin LLP, Pb-Free; PartNumber: LMX2531LQX1742/NOPB; Manufacturer: National Semiconductor; PackageTopMarking: NS*UZXYTTE#*311742A; PowerWise: Y; CompType: Interface IC; Published: 1-Mar-2010; DatasheetVersion: Dec-2009; PackageVersion: revC, Oct-2003; PackageReference: LQA36A; Publisher: Altium Limited; PackageDescription: LLP, Plastic, Quad, 6 x 6 x 0.8mm Body, 36 Lead, 0.5mm Pitch, Custom; Supplier 1: Digi-Key; Supplier Part Number 1: LMX2531LQX1742-ND; RoHS: Y; PinCount: 36; ComponentLink1Description: LMX2531 Datasheet; ComponentLink1URL: http://www.national.com/ds/LM/LMX2531.pdf; ComponentLink2Description: LMX2531 Web Page; ComponentLink2URL: http://www.national.com/pf/LM/LMX2531.html; ComponentLink3Description: LQA36A Package Page; ComponentLink3URL: http://www.national.com/packaging/folders/lqa36a.html
footprint LQA36A (PQFN, 36-Leads, Body 6x6mm, Pitch 0.5mm, NSC Recommended)
pins: 1 VCCDIG (power), 2 NC, 3 GND (power), 4 NC, 5 NC, 6 VREGBUF (power), 7 NC, 8 DATA (in), 9 CLK (in), 10 LE (in), 11 CE (in), 12 NC, 13 NC, 14 NC, 15 NC, 16 VCCVCO (power), 17 VREGVCO (power), 18 VREFVCO (power), 19 GND (power), 20 GND (power), 21 FOUT (out), 22 VCCBUF (power), 23 VTUNE (in), 24 CPOUT (out), 25 FLOUT (out), 26 VREGPLL1 (power), 27 VCCPLL (power), 28 VREGPLL2 (power), 29 NC, 30 FTEST/LD (out), 31 OSCIN (in), 32 OSCIN (in), 33 TEST (out), 34 GND (power), 35 NC, 36 VREGDIG (power), 37 GND (power), 38 GND (power), 39 NC

## LMX2531LQX1910E/NOPB
designator U?
High Performance Frequency Synthesizer System with Integrated VCO, 36-pin LLP, Pb-Free; PartNumber: LMX2531LQX1910E/NOPB; Manufacturer: National Semiconductor; PackageTopMarking: NS*UZXYTTE#*311910EB; PowerWise: Y; CompType: Interface IC; Published: 1-Mar-2010; DatasheetVersion: Dec-2009; PackageVersion: revC, Oct-2003; PackageReference: LQA36A; Publisher: Altium Limited; PackageDescription: LLP, Plastic, Quad, 6 x 6 x 0.8mm Body, 36 Lead, 0.5mm Pitch, Custom; Supplier 1: Digi-Key; Supplier Part Number 1: LMX2531LQX1910E-ND; RoHS: Y; PinCount: 36; ComponentLink1Description: LMX2531 Datasheet; ComponentLink1URL: http://www.national.com/ds/LM/LMX2531.pdf; ComponentLink2Description: LMX2531 Web Page; ComponentLink2URL: http://www.national.com/pf/LM/LMX2531.html; ComponentLink3Description: LQA36A Package Page; ComponentLink3URL: http://www.national.com/packaging/folders/lqa36a.html
footprint LQA36A (PQFN, 36-Leads, Body 6x6mm, Pitch 0.5mm, NSC Recommended)
pins: 1 VCCDIG (power), 2 NC, 3 GND (power), 4 NC, 5 NC, 6 VREGBUF (power), 7 NC, 8 DATA (in), 9 CLK (in), 10 LE (in), 11 CE (in), 12 NC, 13 NC, 14 NC, 15 NC, 16 VCCVCO (power), 17 VREGVCO (power), 18 VREFVCO (power), 19 GND (power), 20 GND (power), 21 FOUT (out), 22 VCCBUF (power), 23 VTUNE (in), 24 CPOUT (out), 25 FLOUT (out), 26 VREGPLL1 (power), 27 VCCPLL (power), 28 VREGPLL2 (power), 29 NC, 30 FTEST/LD (out), 31 OSCIN (in), 32 OSCIN (in), 33 TEST (out), 34 GND (power), 35 NC, 36 VREGDIG (power), 37 GND (power), 38 GND (power), 39 NC

## LMX2531LQX2080E/NOPB
designator U?
High Performance Frequency Synthesizer System with Integrated VCO, 36-pin LLP, Pb-Free; PartNumber: LMX2531LQX2080E/NOPB; Manufacturer: National Semiconductor; PackageTopMarking: NS*UZXYTTE#*312080EB; PowerWise: N; CompType: Interface IC; Published: 1-Mar-2010; DatasheetVersion: Dec-2009; PackageVersion: revC, Oct-2003; PackageReference: LQA36A; Publisher: Altium Limited; PackageDescription: LLP, Plastic, Quad, 6 x 6 x 0.8mm Body, 36 Lead, 0.5mm Pitch, Custom; Supplier 1: Digi-Key; Supplier Part Number 1: LMX2531LQX2080E-ND; RoHS: Y; PinCount: 36; ComponentLink1Description: LMX2531 Datasheet; ComponentLink1URL: http://www.national.com/ds/LM/LMX2531.pdf; ComponentLink2Description: LMX2531 Web Page; ComponentLink2URL: http://www.national.com/pf/LM/LMX2531.html; ComponentLink3Description: LQA36A Package Page; ComponentLink3URL: http://www.national.com/packaging/folders/lqa36a.html
footprint LQA36A (PQFN, 36-Leads, Body 6x6mm, Pitch 0.5mm, NSC Recommended)
pins: 1 VCCDIG (power), 2 NC, 3 GND (power), 4 NC, 5 NC, 6 VREGBUF (power), 7 NC, 8 DATA (in), 9 CLK (in), 10 LE (in), 11 CE (in), 12 NC, 13 NC, 14 NC, 15 NC, 16 VCCVCO (power), 17 VREGVCO (power), 18 VREFVCO (power), 19 GND (power), 20 GND (power), 21 FOUT (out), 22 VCCBUF (power), 23 VTUNE (in), 24 CPOUT (out), 25 FLOUT (out), 26 VREGPLL1 (power), 27 VCCPLL (power), 28 VREGPLL2 (power), 29 NC, 30 FTEST/LD (out), 31 OSCIN (in), 32 OSCIN (in), 33 TEST (out), 34 GND (power), 35 NC, 36 VREGDIG (power), 37 GND (power), 38 GND (power), 39 NC

## LMX2531LQX2265E/NOPB
designator U?
High Performance Frequency Synthesizer System with Integrated VCO, 36-pin LLP, Pb-Free; PartNumber: LMX2531LQX2265E/NOPB; Manufacturer: National Semiconductor; PackageTopMarking: NS*UZXYTTE#*312265ED; PowerWise: Y; CompType: Interface IC; Published: 1-Mar-2010; DatasheetVersion: Dec-2009; PackageVersion: revC, Oct-2003; PackageReference: LQA36A; Publisher: Altium Limited; PackageDescription: LLP, Plastic, Quad, 6 x 6 x 0.8mm Body, 36 Lead, 0.5mm Pitch, Custom; Supplier 1: Digi-Key; Supplier Part Number 1: LMX2531LQX2265E-ND; RoHS: Y; PinCount: 36; ComponentLink1Description: LMX2531 Datasheet; ComponentLink1URL: http://www.national.com/ds/LM/LMX2531.pdf; ComponentLink2Description: LMX2531 Web Page; ComponentLink2URL: http://www.national.com/pf/LM/LMX2531.html; ComponentLink3Description: LQA36A Package Page; ComponentLink3URL: http://www.national.com/packaging/folders/lqa36a.html
footprint LQA36A (PQFN, 36-Leads, Body 6x6mm, Pitch 0.5mm, NSC Recommended)
pins: 1 VCCDIG (power), 2 NC, 3 GND (power), 4 NC, 5 NC, 6 VREGBUF (power), 7 NC, 8 DATA (in), 9 CLK (in), 10 LE (in), 11 CE (in), 12 NC, 13 NC, 14 NC, 15 NC, 16 VCCVCO (power), 17 VREGVCO (power), 18 VREFVCO (power), 19 GND (power), 20 GND (power), 21 FOUT (out), 22 VCCBUF (power), 23 VTUNE (in), 24 CPOUT (out), 25 FLOUT (out), 26 VREGPLL1 (power), 27 VCCPLL (power), 28 VREGPLL2 (power), 29 NC, 30 FTEST/LD (out), 31 OSCIN (in), 32 OSCIN (in), 33 TEST (out), 34 GND (power), 35 NC, 36 VREGDIG (power), 37 GND (power), 38 GND (power), 39 NC

## LMX2531LQX2570E/NOPB
designator U?
High Performance Frequency Synthesizer System with Integrated VCO, 36-pin LLP, Pb-Free; PartNumber: LMX2531LQX2570E/NOPB; Manufacturer: National Semiconductor; PackageTopMarking: NS*UZXYTTE#*312570EC; PowerWise: Y; CompType: Interface IC; Published: 1-Mar-2010; DatasheetVersion: Dec-2009; PackageVersion: revC, Oct-2003; PackageReference: LQA36A; Publisher: Altium Limited; PackageDescription: LLP, Plastic, Quad, 6 x 6 x 0.8mm Body, 36 Lead, 0.5mm Pitch, Custom; Supplier 1: Digi-Key; Supplier Part Number 1: LMX2531LQX2570E-ND; RoHS: Y; PinCount: 36; ComponentLink1Description: LMX2531 Datasheet; ComponentLink1URL: http://www.national.com/ds/LM/LMX2531.pdf; ComponentLink2Description: LMX2531 Web Page; ComponentLink2URL: http://www.national.com/pf/LM/LMX2531.html; ComponentLink3Description: LQA36A Package Page; ComponentLink3URL: http://www.national.com/packaging/folders/lqa36a.html
footprint LQA36A (PQFN, 36-Leads, Body 6x6mm, Pitch 0.5mm, NSC Recommended)
pins: 1 VCCDIG (power), 2 NC, 3 GND (power), 4 NC, 5 NC, 6 VREGBUF (power), 7 NC, 8 DATA (in), 9 CLK (in), 10 LE (in), 11 CE (in), 12 NC, 13 NC, 14 NC, 15 NC, 16 VCCVCO (power), 17 VREGVCO (power), 18 VREFVCO (power), 19 GND (power), 20 GND (power), 21 FOUT (out), 22 VCCBUF (power), 23 VTUNE (in), 24 CPOUT (out), 25 FLOUT (out), 26 VREGPLL1 (power), 27 VCCPLL (power), 28 VREGPLL2 (power), 29 NC, 30 FTEST/LD (out), 31 OSCIN (in), 32 OSCIN (in), 33 TEST (out), 34 GND (power), 35 NC, 36 VREGDIG (power), 37 GND (power), 38 GND (power), 39 NC

## LMX2531LQX2820E/NOPB
designator U?
High Performance Frequency Synthesizer System with Integrated VCO, 36-pin LLP, Pb-Free; PartNumber: LMX2531LQX2820E/NOPB; Manufacturer: National Semiconductor; PackageTopMarking: NS*UZXYTTE#*312820E; PowerWise: Y; CompType: Interface IC; Published: 1-Mar-2010; DatasheetVersion: Dec-2009; PackageVersion: revC, Oct-2003; PackageReference: LQA36A; Publisher: Altium Limited; PackageDescription: LLP, Plastic, Quad, 6 x 6 x 0.8mm Body, 36 Lead, 0.5mm Pitch, Custom; Supplier 1: Digi-Key; Supplier Part Number 1: LMX2531LQX2820E-ND; RoHS: Y; PinCount: 36; ComponentLink1Description: LMX2531 Datasheet; ComponentLink1URL: http://www.national.com/ds/LM/LMX2531.pdf; ComponentLink2Description: LMX2531 Web Page; ComponentLink2URL: http://www.national.com/pf/LM/LMX2531.html; ComponentLink3Description: LQA36A Package Page; ComponentLink3URL: http://www.national.com/packaging/folders/lqa36a.html
footprint LQA36A (PQFN, 36-Leads, Body 6x6mm, Pitch 0.5mm, NSC Recommended)
pins: 1 VCCDIG (power), 2 NC, 3 GND (power), 4 NC, 5 NC, 6 VREGBUF (power), 7 NC, 8 DATA (in), 9 CLK (in), 10 LE (in), 11 CE (in), 12 NC, 13 NC, 14 NC, 15 NC, 16 VCCVCO (power), 17 VREGVCO (power), 18 VREFVCO (power), 19 GND (power), 20 GND (power), 21 FOUT (out), 22 VCCBUF (power), 23 VTUNE (in), 24 CPOUT (out), 25 FLOUT (out), 26 VREGPLL1 (power), 27 VCCPLL (power), 28 VREGPLL2 (power), 29 NC, 30 FTEST/LD (out), 31 OSCIN (in), 32 OSCIN (in), 33 TEST (out), 34 GND (power), 35 NC, 36 VREGDIG (power), 37 GND (power), 38 GND (power), 39 NC

## LMX2531LQX3010E/NOPB
designator U?
High Performance Frequency Synthesizer System with Integrated VCO, 36-pin LLP, Pb-Free; PartNumber: LMX2531LQX3010E/NOPB; Manufacturer: National Semiconductor; PackageTopMarking: NS*UZXYTTE#*313010E; PowerWise: Y; CompType: Interface IC; Published: 1-Mar-2010; DatasheetVersion: Dec-2009; PackageVersion: revC, Oct-2003; PackageReference: LQA36A; Publisher: Altium Limited; PackageDescription: LLP, Plastic, Quad, 6 x 6 x 0.8mm Body, 36 Lead, 0.5mm Pitch, Custom; Supplier 1: Digi-Key; Supplier Part Number 1: LMX2531LQX3010E-ND; RoHS: Y; PinCount: 36; ComponentLink1Description: LMX2531 Datasheet; ComponentLink1URL: http://www.national.com/ds/LM/LMX2531.pdf; ComponentLink2Description: LMX2531 Web Page; ComponentLink2URL: http://www.national.com/pf/LM/LMX2531.html; ComponentLink3Description: LQA36A Package Page; ComponentLink3URL: http://www.national.com/packaging/folders/lqa36a.html
footprint LQA36A (PQFN, 36-Leads, Body 6x6mm, Pitch 0.5mm, NSC Recommended)
pins: 1 VCCDIG (power), 2 NC, 3 GND (power), 4 NC, 5 NC, 6 VREGBUF (power), 7 NC, 8 DATA (in), 9 CLK (in), 10 LE (in), 11 CE (in), 12 NC, 13 NC, 14 NC, 15 NC, 16 VCCVCO (power), 17 VREGVCO (power), 18 VREFVCO (power), 19 GND (power), 20 GND (power), 21 FOUT (out), 22 VCCBUF (power), 23 VTUNE (in), 24 CPOUT (out), 25 FLOUT (out), 26 VREGPLL1 (power), 27 VCCPLL (power), 28 VREGPLL2 (power), 29 NC, 30 FTEST/LD (out), 31 OSCIN (in), 32 OSCIN (in), 33 TEST (out), 34 GND (power), 35 NC, 36 VREGDIG (power), 37 GND (power), 38 GND (power), 39 NC

## LMX2541SQ2060E/NOPB
designator U?
Ultra-Low Noise PLLatinum Frequency Synthesizer with Integrated VCO, 36-pin LLP, Pb-Free; PartNumber: LMX2541SQ2060E/NOPB; Manufacturer: National Semiconductor; PackageTopMarking: NS*UZXYTT*412060E; PowerWise: Y; CompType: Interface IC; Published: 1-Mar-2010; DatasheetVersion: Feb-2010; PackageVersion: revA, Jun-2003; PackageReference: SQA36A; Publisher: Altium Limited; PackageDescription: LLP, Plastic, Quad, 6 x 6 x 0.8mm Body, 36 Lead, 0.5mm Pitch, No Pullback; Supplier 1: Digi-Key; Supplier Part Number 1: LMX2541SQ2060E-ND; RoHS: Y; PinCount: 36; ComponentLink1Description: LMX2541 Datasheet; ComponentLink1URL: http://www.national.com/ds/LM/LMX2541.pdf; ComponentLink2Description: LMX2541 Web Page; ComponentLink2URL: http://www.national.com/pf/LM/LMX2541.html; ComponentLink3Description: SQA36A Package Page; ComponentLink3URL: http://www.national.com/packaging/folders/sqa36a.html
footprint SQA36A (QFN, 36-Leads, Body 6x6mm, Pitch 0.5mm, NSC Recommended)
pins: 1 GND (power), 2 VREGRFOUT (out), 3 VCCRFOUT (power), 4 L1, 5 LMID, 6 L2, 7 VCCVCO (power), 8 VREGVCO (out), 9 VREFVCO, 10 GND (power), 11 CE (in), 12 EXTVCOIN (in), 13 VCCPLL1, 14 VCCCP1, 15 VTUNE (in), 16 CPOUT (out), 17 FLOUT (out), 18 VCCCP2 (power), 19 VCCPLL2 (power), 20 FTEST/LD (out), 21 OSCIN (in), 22 OSCIN* (in), 23 VCCOSCIN (power), 24 RFOUTEN (in), 25 VCCFRAC (power), 26 VREGFRAC (power), 27 GND (power), 28 VCCDIG (power), 29 VCCBIAS (power), 30 BYPASS, 31 VCCDIV (power), 32 DATA (in), 33 CLK (in), 34 LE (in), 35 NC, 36 RFOUT (out), 37 GND (power)

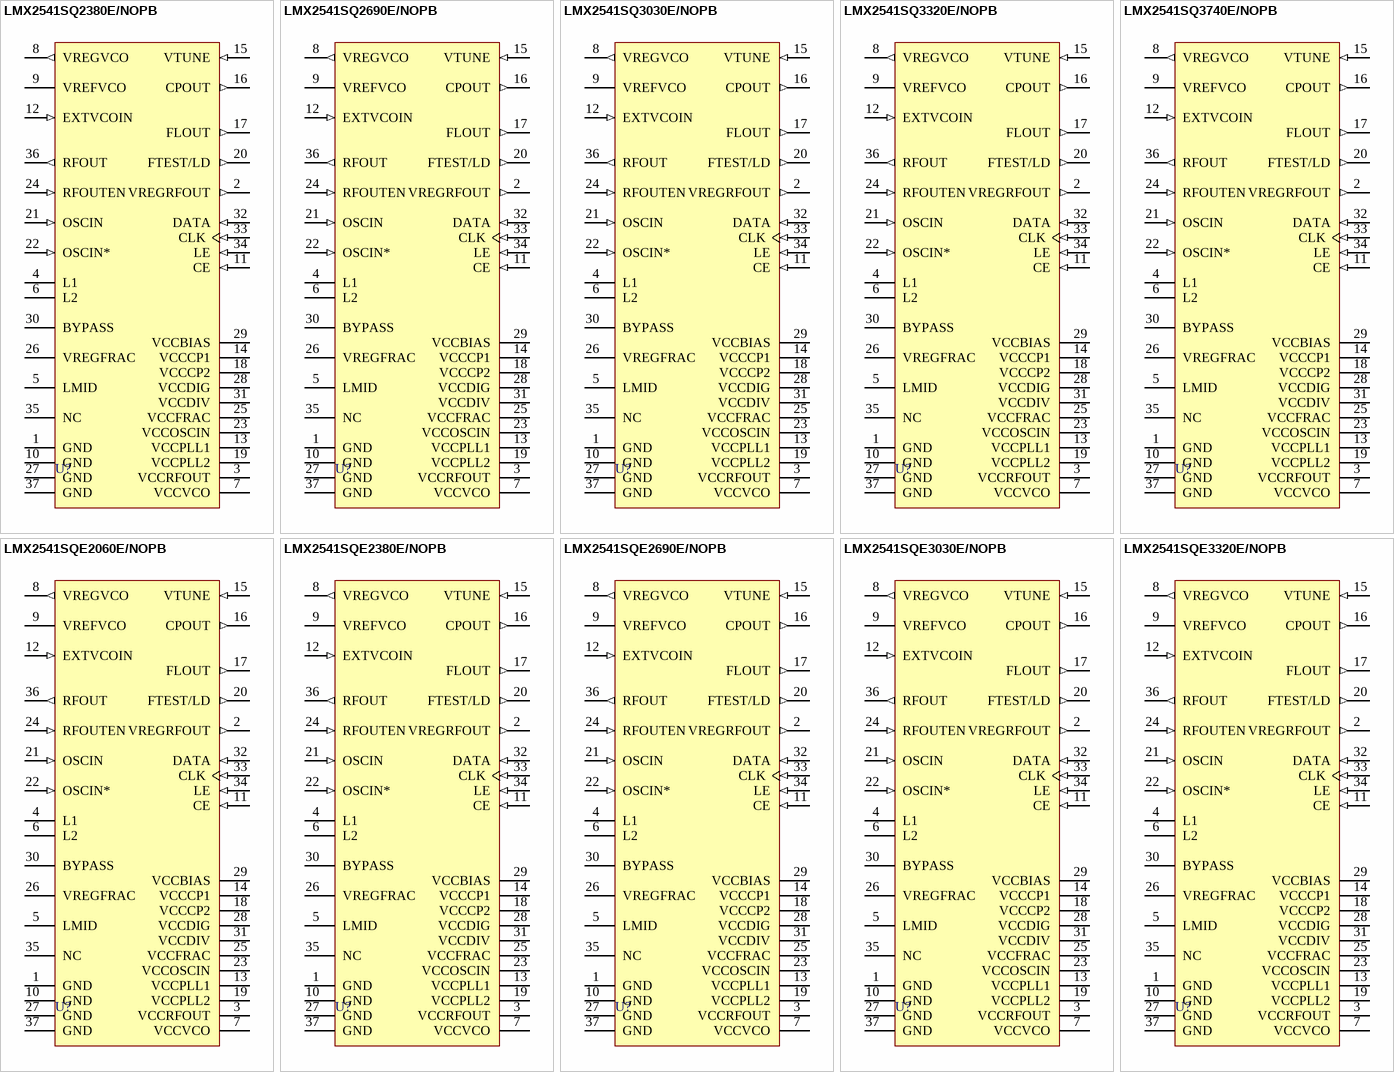
[diagram p98: symbols LMX2541SQ2380E/NOPB to LMX2541SQE3320E/NOPB]

## LMX2541SQ2380E/NOPB
designator U?
Ultra-Low Noise PLLatinum Frequency Synthesizer with Integrated VCO, 36-pin LLP, Pb-Free; PartNumber: LMX2541SQ2380E/NOPB; Manufacturer: National Semiconductor; PackageTopMarking: NS*UZXYTTE#*412380E; PowerWise: Y; CompType: Interface IC; Published: 1-Mar-2010; DatasheetVersion: Feb-2010; PackageVersion: revA, Jun-2003; PackageReference: SQA36A; Publisher: Altium Limited; PackageDescription: LLP, Plastic, Quad, 6 x 6 x 0.8mm Body, 36 Lead, 0.5mm Pitch, No Pullback; Supplier 1: Digi-Key; Supplier Part Number 1: LMX2541SQ2380E/NOPBTR-ND; Supplier 2: Digi-Key; Supplier Part Number 2: LMX2541SQ2380E/NOPBCT-ND; Supplier 3: Digi-Key; Supplier Part Number 3: LMX2541SQ2380E/NOPBDKR-ND; RoHS: Y; PinCount: 36; ComponentLink1Description: LMX2541 Datasheet; ComponentLink1URL: http://www.national.com/ds/LM/LMX2541.pdf; ComponentLink2Description: LMX2541 Web Page; ComponentLink2URL: http://www.national.com/pf/LM/LMX2541.html; ComponentLink3Description: SQA36A Package Page; ComponentLink3URL: http://www.national.com/packaging/folders/sqa36a.html
footprint SQA36A (QFN, 36-Leads, Body 6x6mm, Pitch 0.5mm, NSC Recommended)
pins: 1 GND (power), 2 VREGRFOUT (out), 3 VCCRFOUT (power), 4 L1, 5 LMID, 6 L2, 7 VCCVCO (power), 8 VREGVCO (out), 9 VREFVCO, 10 GND (power), 11 CE (in), 12 EXTVCOIN (in), 13 VCCPLL1, 14 VCCCP1, 15 VTUNE (in), 16 CPOUT (out), 17 FLOUT (out), 18 VCCCP2 (power), 19 VCCPLL2 (power), 20 FTEST/LD (out), 21 OSCIN (in), 22 OSCIN* (in), 23 VCCOSCIN (power), 24 RFOUTEN (in), 25 VCCFRAC (power), 26 VREGFRAC (power), 27 GND (power), 28 VCCDIG (power), 29 VCCBIAS (power), 30 BYPASS, 31 VCCDIV (power), 32 DATA (in), 33 CLK (in), 34 LE (in), 35 NC, 36 RFOUT (out), 37 GND (power)

## LMX2541SQ2690E/NOPB
designator U?
Ultra-Low Noise PLLatinum Frequency Synthesizer with Integrated VCO, 36-pin LLP, Pb-Free; PartNumber: LMX2541SQ2690E/NOPB; Manufacturer: National Semiconductor; PackageTopMarking: NS*UZXYTT*412690E; PowerWise: Y; CompType: Interface IC; Published: 1-Mar-2010; DatasheetVersion: Feb-2010; PackageVersion: revA, Jun-2003; PackageReference: SQA36A; Publisher: Altium Limited; PackageDescription: LLP, Plastic, Quad, 6 x 6 x 0.8mm Body, 36 Lead, 0.5mm Pitch, No Pullback; Supplier 1: Digi-Key; Supplier Part Number 1: LMX2541SQ2690E/NOPBTR-ND; Supplier 2: Digi-Key; Supplier Part Number 2: LMX2541SQ2690E/NOPBCT-ND; Supplier 3: Digi-Key; Supplier Part Number 3: LMX2541SQ2690E/NOPBDKR-ND; RoHS: Y; PinCount: 36; ComponentLink1Description: LMX2541 Datasheet; ComponentLink1URL: http://www.national.com/ds/LM/LMX2541.pdf; ComponentLink2Description: LMX2541 Web Page; ComponentLink2URL: http://www.national.com/pf/LM/LMX2541.html; ComponentLink3Description: SQA36A Package Page; ComponentLink3URL: http://www.national.com/packaging/folders/sqa36a.html
footprint SQA36A (QFN, 36-Leads, Body 6x6mm, Pitch 0.5mm, NSC Recommended)
pins: 1 GND (power), 2 VREGRFOUT (out), 3 VCCRFOUT (power), 4 L1, 5 LMID, 6 L2, 7 VCCVCO (power), 8 VREGVCO (out), 9 VREFVCO, 10 GND (power), 11 CE (in), 12 EXTVCOIN (in), 13 VCCPLL1, 14 VCCCP1, 15 VTUNE (in), 16 CPOUT (out), 17 FLOUT (out), 18 VCCCP2 (power), 19 VCCPLL2 (power), 20 FTEST/LD (out), 21 OSCIN (in), 22 OSCIN* (in), 23 VCCOSCIN (power), 24 RFOUTEN (in), 25 VCCFRAC (power), 26 VREGFRAC (power), 27 GND (power), 28 VCCDIG (power), 29 VCCBIAS (power), 30 BYPASS, 31 VCCDIV (power), 32 DATA (in), 33 CLK (in), 34 LE (in), 35 NC, 36 RFOUT (out), 37 GND (power)

## LMX2541SQ3030E/NOPB
designator U?
Ultra-Low Noise PLLatinum Frequency Synthesizer with Integrated VCO, 36-pin LLP, Pb-Free; PartNumber: LMX2541SQ3030E/NOPB; Manufacturer: National Semiconductor; PackageTopMarking: NS*UZXYTT*413030E; PowerWise: Y; CompType: Interface IC; Published: 1-Mar-2010; DatasheetVersion: Feb-2010; PackageVersion: revA, Jun-2003; PackageReference: SQA36A; Publisher: Altium Limited; PackageDescription: LLP, Plastic, Quad, 6 x 6 x 0.8mm Body, 36 Lead, 0.5mm Pitch, No Pullback; Supplier 1: Digi-Key; Supplier Part Number 1: LMX2541SQ3030E/NOPBTR-ND; Supplier 2: Digi-Key; Supplier Part Number 2: LMX2541SQ3030E/NOPBCT-ND; Supplier 3: Digi-Key; Supplier Part Number 3: LMX2541SQ3030E/NOPBDKR-ND; RoHS: Y; PinCount: 36; ComponentLink1Description: LMX2541 Datasheet; ComponentLink1URL: http://www.national.com/ds/LM/LMX2541.pdf; ComponentLink2Description: LMX2541 Web Page; ComponentLink2URL: http://www.national.com/pf/LM/LMX2541.html; ComponentLink3Description: SQA36A Package Page; ComponentLink3URL: http://www.national.com/packaging/folders/sqa36a.html
footprint SQA36A (QFN, 36-Leads, Body 6x6mm, Pitch 0.5mm, NSC Recommended)
pins: 1 GND (power), 2 VREGRFOUT (out), 3 VCCRFOUT (power), 4 L1, 5 LMID, 6 L2, 7 VCCVCO (power), 8 VREGVCO (out), 9 VREFVCO, 10 GND (power), 11 CE (in), 12 EXTVCOIN (in), 13 VCCPLL1, 14 VCCCP1, 15 VTUNE (in), 16 CPOUT (out), 17 FLOUT (out), 18 VCCCP2 (power), 19 VCCPLL2 (power), 20 FTEST/LD (out), 21 OSCIN (in), 22 OSCIN* (in), 23 VCCOSCIN (power), 24 RFOUTEN (in), 25 VCCFRAC (power), 26 VREGFRAC (power), 27 GND (power), 28 VCCDIG (power), 29 VCCBIAS (power), 30 BYPASS, 31 VCCDIV (power), 32 DATA (in), 33 CLK (in), 34 LE (in), 35 NC, 36 RFOUT (out), 37 GND (power)